# Altium schematic symbol library TJA1051TK_3_118.SchLib: 1 symbol
Pins are listed as number, name and electrical type; pins without a type are passive.

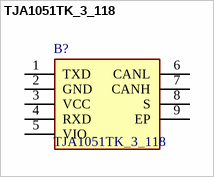
[diagram p0: symbol TJA1051TK_3_118]

## TJA1051TK_3_118
designator B?
High-speed CAN transceiver; Manufacturer_Name: NXP; Manufacturer_Part_Number: TJA1051TK/3,118; Geometry.Height: 1mm; Mouser Part Number: 771-TJA1051TK/3118; Mouser Price/Stock: https://www.mouser.co.uk/ProductDetail/NXP-Semiconductors/TJA1051TK-3118?qs=fhAOlxDPaYVrDQ2e4g%252BBJA%3D%3D; Datasheet Link: http://www.nxp.com/docs/en/data-sheet/TJA1051.pdf
footprint SON65P300X300X100-9N-D
pins: 1 TXD, 2 GND, 3 VCC, 4 RXD, 5 VIO, 6 CANL, 7 CANH, 8 S, 9 EP